# Altium schematic symbol library 1N4148W.SchLib: 1 symbol
Pins are listed as number, name and electrical type; pins without a type are passive.

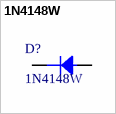
[diagram p0: symbol 1N4148W]

## 1N4148W
designator D?
DIODE STANDARD 75V 250MA SOD123; Manufacturer 1: Sangdest Microelectronics; Max Output current: 150mA; Max Power Dissipation: 410mW; Number of Elements: 1; Reverse Recovery Time: 4ns; Supplier 1: DigiKey; Manufacturer Part Number 1: 1N4148W; Stock 1: 266309; Pricing 1: 1=0.14, 10=0.083, 50=0.0592, 100=0.0512, 500=0.03694 (USD); RoHS: Compliant; Country of Origin: Mainland China; Export Control Classification Number (ECCN) Code: EAR99; Harmonized Tariff Schedule (HTS) Code: 8541.10.00.70; Introduction Date: 2003-01-15; Lifecycle Status: Production; Max Operating Temperature: 150°C; Number of Terminals: 2; REACH SVHC: Unaffected; Reverse Standoff Voltage: 75V; ComponentLink1URL: https://datasheet.octopart.com:443/1N4148W-SMC-Diode-Solutions-datasheet-181398799.pdf?src-supplier=IHS; ComponentLink1Description: https://datasheet.octopart.com:443/1N4148W-SMC-Diode-Solutions-datasheet-181398799.pdf?src-supplier=IHS; Supplier Part Number 1: 1655-1N4148WCT-ND
footprint SOD123_DIO
footprint SOD123_DIO
pins: 1, 2